# Altium schematic symbol library ICE40LP384_49BGA.SchLib: 1 symbol
Pins are listed as number, name and electrical type; pins without a type are passive.

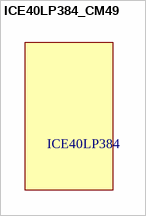
[diagram p0: symbol ICE40LP384_CM49]

## ICE40LP384_CM49
designator ICE40LP384  (value not drawn)
Lattice FPGA with 384 LUTs, in 49BGA-Package.
footprint ICE40LP384_49ucBGA (Lattice FPGA in 49-Pin BGA Package with 384 Logik-Cells)